# EAGLE library part TMP36FSZ (library PDUv2)
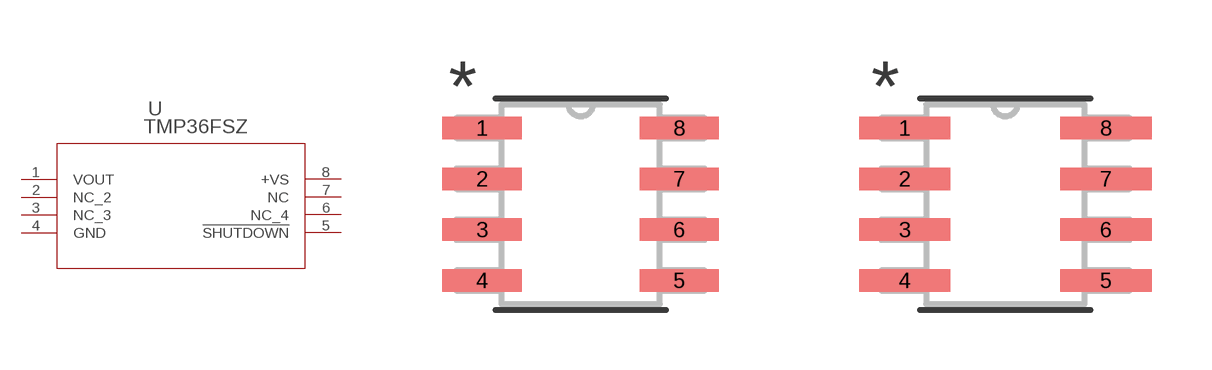
[diagram p8: symbol with the pads of R_8_ADI; footprints R_8_ADI, R_8_ADI-M]

Designator prefix U

## TMP36FSZ (COPYRIGHT: Copyright (C) 2021 Ultra Librarian. All rights reserved.; MANUFACTURER_PART_NUMBER: TMP36FSZ; MFR_NAME: Analog Devices Inc)  [R_8_ADI]
1  VOUT  out
2  NC_2  nc
3  NC_3  nc
4  GND  pas
5  !SHUTDOWN  pas
6  NC_4  nc
7  NC  nc
8  +VS  pwr

## TMP36FSZR_8_ADI-M (COPYRIGHT: Copyright (C) 2021 Ultra Librarian. All rights reserved.; MANUFACTURER_PART_NUMBER: TMP36FSZ; MFR_NAME: Analog Devices Inc)  [R_8_ADI-M]
Pads as for R_8_ADI

## TMP36FSZR_8_ADI-L (COPYRIGHT: Copyright (C) 2021 Ultra Librarian. All rights reserved.; MANUFACTURER_PART_NUMBER: TMP36FSZ; MFR_NAME: Analog Devices Inc)  [R_8_ADI-L]
Pads as for R_8_ADI

## Footprint R_8_ADI (pad centres in mm)
smd 1.981 x 0.559: 1 -2.464,1.905; 2 -2.464,0.635; 3 -2.464,-0.635; 4 -2.464,-1.905; 5 2.464,-1.905; 6 2.464,-0.635; 7 2.464,0.635; 8 2.464,1.905

## Footprint R_8_ADI-M (pad centres in mm)
smd 2.286 x 0.559: 1 -2.515,1.905; 2 -2.515,0.635; 3 -2.515,-0.635; 4 -2.515,-1.905; 5 2.515,-1.905; 6 2.515,-0.635; 7 2.515,0.635; 8 2.515,1.905

## Footprint R_8_ADI-L (pad centres in mm)
smd 1.676 x 0.508: 1 -2.413,1.905; 2 -2.413,0.635; 3 -2.413,-0.635; 4 -2.413,-1.905; 5 2.413,-1.905; 6 2.413,-0.635; 7 2.413,0.635; 8 2.413,1.905